# Altium footprint library Accumulator board 1 mkII 3.0.PcbLib: 32 footprints (part 1 of 2)
Each footprint in its own frame and in the unit in brackets; x right, y up, seen from the top. Pads: shape width x height; smd on the part's side, far side on the other; paste and mask are expansions set on the pad; w line width, h text height; cw(c..) or ccw(c..) is an arc to the next point about the centre after c.
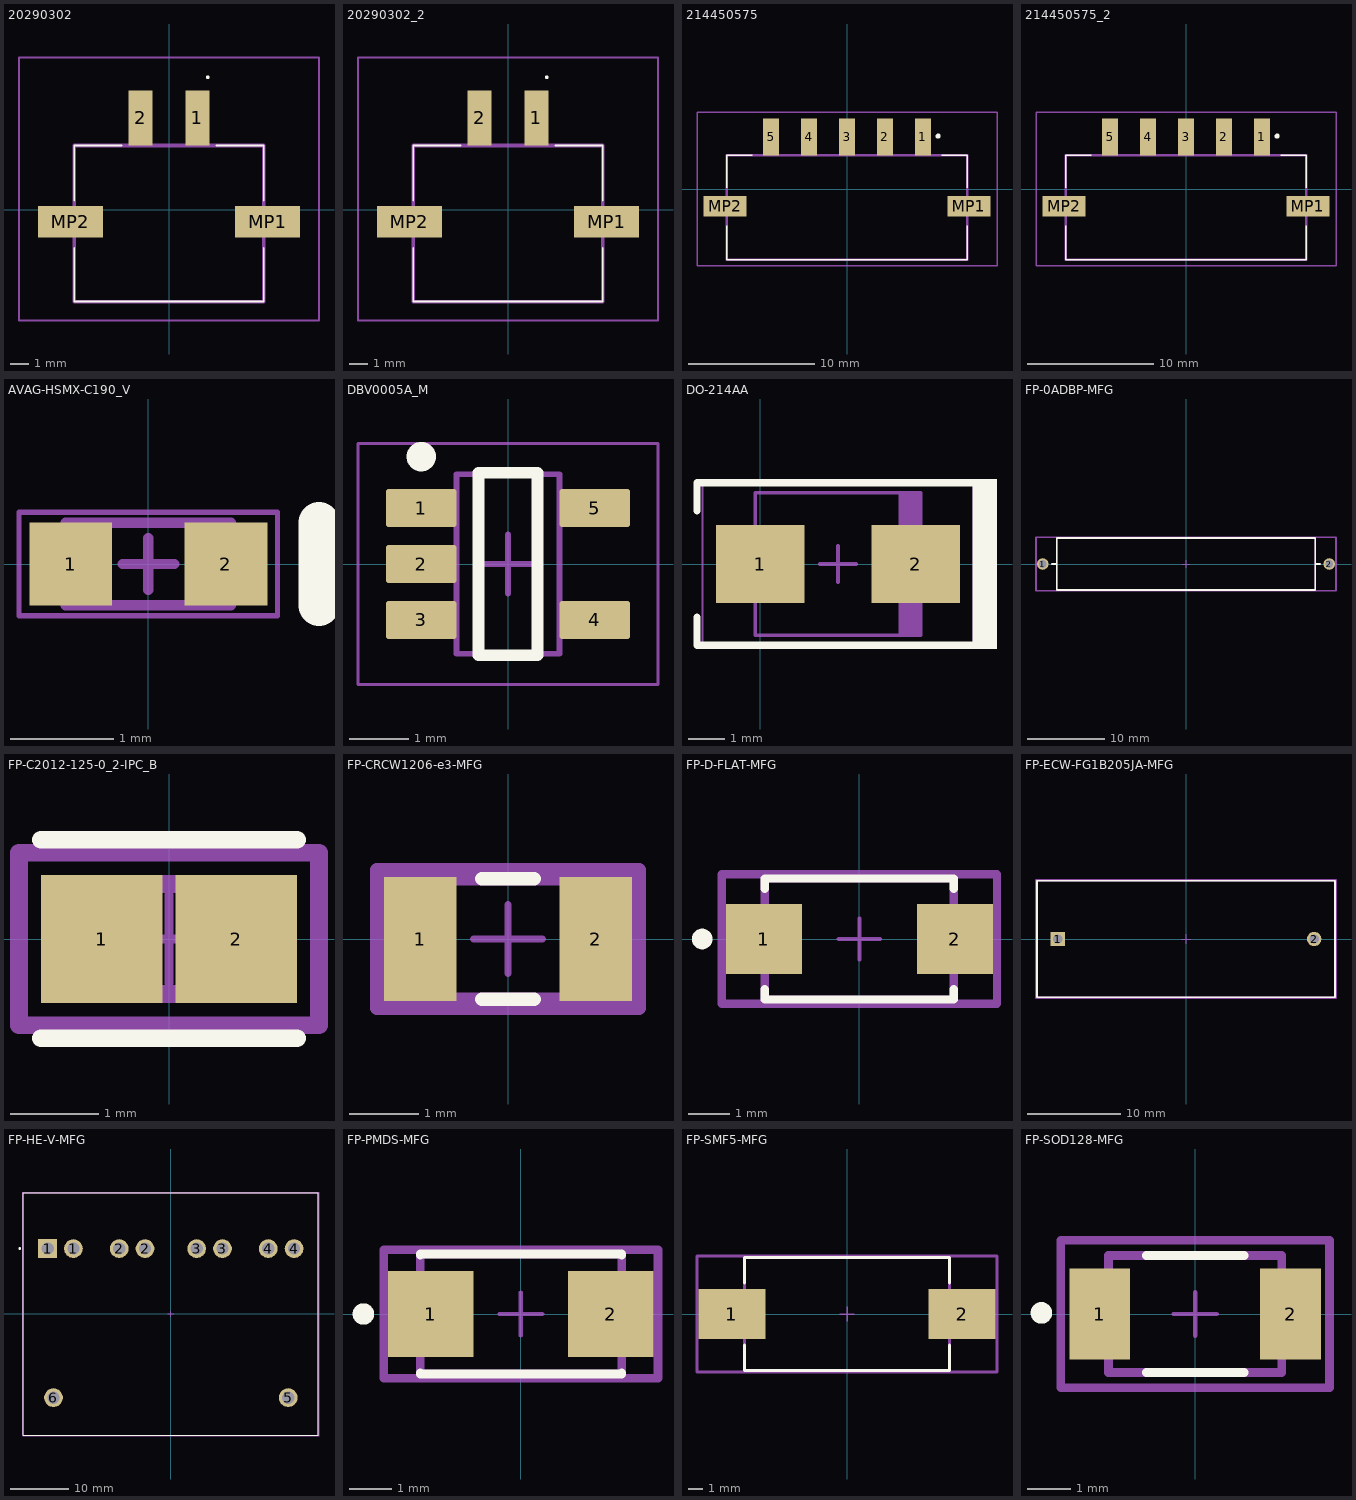
[diagram p0: the footprints below, top view; thin cyan lines are the x and y axes]

## 20290302 [mm]
pads (4):
  rect 1.27x2.92 smd: 1(1.5,4.85) 2(-1.5,4.85)
  rect 3.43x1.65 smd: MP1(5.205,-0.63) MP2(-5.205,-0.63)
Top Overlay:
  lines w0.1: -5,-2 -5,-4.85 5,-4.85 5,-2 ; -5,0.5 -5,3.39 -2.5,3.39 ; 2.5,3.39 5,3.39 5,0.5 ; 2,7 ccw(c2.05,7) 2.1,7 ccw(c2.05,7) 2,7
Mechanical 13:
  lines w0.2: -5,-4.85 5,-4.85 5,3.39 -5,3.39 -5,-4.85
Mechanical 15:
  lines w0.1: -7.92,-5.85 7.92,-5.85 7.92,8.05 -7.92,8.05 -7.92,-5.85
3D body "2029030-2.stp": height 4.37, standoff 0, extent -6.625,-5.14 6.625,6.02

## 20290302_2 [mm]
pads (4):
  rect 1.27x2.92 smd: 1(1.5,4.85) 2(-1.5,4.85)
  rect 3.43x1.65 smd: MP1(5.205,-0.63) MP2(-5.205,-0.63)
Top Overlay:
  lines w0.1: -5,-2 -5,-4.85 5,-4.85 5,-2 ; -5,0.5 -5,3.39 -2.5,3.39 ; 2.5,3.39 5,3.39 5,0.5 ; 2,7 ccw(c2.05,7) 2.1,7 ccw(c2.05,7) 2,7
Top 3D Body:
  lines w0.2: -5,-4.85 5,-4.85 5,3.39 -5,3.39 -5,-4.85
Top Courtyard:
  lines w0.1: -7.92,-5.85 7.92,-5.85 7.92,8.05 -7.92,8.05 -7.92,-5.85
3D body "2029030-2.stp": height 4.37, standoff 0, extent -6.625,-5.14 6.625,6.02

## 214450575 [mm]
height 9.24
pads (7):
  rect 1.27x2.92 smd: 1(6,4.12) 2(3,4.12) 3(0,4.12) 4(-3,4.12) 5(-6,4.12)
  rect 3.43x1.65 smd: MP1(9.635,-1.36) MP2(-9.635,-1.36)
Top Overlay:
  lines w0.1: -9.5,-2.92 -9.5,-5.58 9.5,-5.58 9.5,-2.92 ; -9.5,0.08 -9.5,2.66 -7.5,2.66 ; 7.5,2.66 9.5,2.66 9.5,0.08
  lines w0.2: 7.2,4.08 ccw(c7.2,4.18) 7.2,4.28 ccw(c7.2,4.18) 7.2,4.08
Top 3D Body:
  lines w0.2: -9.5,-5.58 -9.5,2.66 9.5,2.66 9.5,-5.58 -9.5,-5.58
Top Courtyard:
  lines w0.1: -11.85,-6.08 -11.85,6.08 11.85,6.08 11.85,-6.08 -11.85,-6.08
3D body "2-1445057-5.stp": height 5.67, standoff 0, extent -11.125,-5.87 11.125,5.29

## 214450575_2 [mm]
pads (7):
  rect 1.27x2.92 smd: 1(6,4.12) 2(3,4.12) 3(0,4.12) 4(-3,4.12) 5(-6,4.12)
  rect 3.43x1.65 smd: MP1(9.635,-1.36) MP2(-9.635,-1.36)
Top Overlay:
  lines w0.1: -9.5,-2.92 -9.5,-5.58 9.5,-5.58 9.5,-2.92 ; -9.5,0.08 -9.5,2.66 -7.5,2.66 ; 7.5,2.66 9.5,2.66 9.5,0.08
  lines w0.2: 7.2,4.08 cw(c7.2,4.18) 7.2,4.28 cw(c7.2,4.18) 7.2,4.08
Mechanical 13:
  lines w0.2: -9.5,-5.58 9.5,-5.58 9.5,2.66 -9.5,2.66 -9.5,-5.58
Mechanical 15:
  lines w0.1: -11.85,-6.08 11.85,-6.08 11.85,6.08 -11.85,6.08 -11.85,-6.08
3D body "2-1445057-5.stp": height 5.67, standoff 0, extent -11.125,-5.87 11.125,5.29

## AVAG-HSMX-C190_V [mm] "SMD, 2-Leads, Body 1.6x0.8mm, Height 0.9mm"
height 0.9
pads (2):
  rect 0.8x0.8 smd: 1(-0.75,0) 2(0.75,0)
Top Overlay:
  lines w0.4: 1.65,-0.4 1.65,0.4
Mechanical 13:
  lines w0.1: -0.8,-0.4 0.8,-0.4 0.8,0.4 -0.8,0.4 -0.8,-0.4
Mechanical 15:
  lines w0.05: -1.25,-0.5 -1.25,0.5 1.25,0.5 1.25,-0.5 -1.25,-0.5
  lines w0.1: -0.25,0 0.25,0 ; 0,-0.25 0,0.25
3D body: height 0.4, standoff 0, extent -0.8,-0.4 0.8,0.4
3D body: height 0.9, standoff 0.4, extent -0.55,-0.4 0.55,0.4

## DBV0005A_M [mm] "SOT23, 5-Leads, Body 3.05x1.75mm, Pitch 0.95mm, IPC Low Density"
height 1.45
pads (5):
  rrect15% 1.2x0.65 smd: 1(-1.475,0.95) 2(-1.475,0) 3(-1.475,-0.95) 4(1.475,-0.95) 5(1.475,0.95)
Top Overlay:
  circle w0.25: c-1.475,1.825 r0.125
  lines w0.2: -0.5,-1.55 -0.5,1.55 0.5,1.55 0.5,-1.55 -0.5,-1.55
Mechanical 1:
  text ".Designator" at -0.635,-0.127 h0.4
Mechanical 13:
  lines w0.1: -0.875,-1.525 0.875,-1.525 0.875,1.525 -0.875,1.525 -0.875,-1.525
Mechanical 15:
  lines w0.05: -2.55,-2.05 2.55,-2.05 2.55,2.05 -2.55,2.05 -2.55,-2.05
  lines w0.1: -0.5,0 0.5,0 ; 0,-0.5 0,0.5
3D body "DBV0005AaksMF05A.stp": height 1.08, standoff -0.01, extent -1.422,-1.461 1.422,1.46

## DO-214AA [mm] "Diode"
pads (2):
  rect 2.45x2.15 smd: 1(0,0) 2(4.3,0)
Top Overlay:
  rectangle: 5.875,-2.349 6.55,2.351
  lines w0.2: -1.75,-1.475 -1.75,-2.25 6.05,-2.25 ; -1.75,1.475 -1.75,2.25 6.05,2.25
Mechanical 13:
  rectangle: 3.82,-1.969 4.435,1.971
  lines w0.1: -0.135,-1.97 -0.135,1.97 4.435,1.97 4.435,-1.97 -0.135,-1.97
Mechanical 15:
  lines w0.05: -1.6,-2.25 -1.6,2.25 5.9,2.25 5.9,-2.25 -1.6,-2.25
  lines w0.1: 1.65,0 2.65,0 ; 2.15,-0.5 2.15,0.5
3D body "SMB.STEP": height 2.4, standoff 0, extent -0.45,-1.8 4.75,1.8

## FP-0ADBP-MFG [mm]
height 9.24
pads (2):
  round 1.5 hole 1 paste-1000 mask+0: 1(-18.615,0) 2(18.615,0)
Top Overlay:
  lines w0.2: -17.44,0 -16.805,0 ; 16.805,0 17.44,0 ; -16.805,-3.38 16.805,-3.38 16.805,3.38 -16.805,3.38 -16.805,-3.38
Top 3D Body:
  lines w0.2: -16.805,-3.38 16.805,-3.38 16.805,3.38 -16.805,3.38 -16.805,-3.38
Top Courtyard:
  lines w0.2: -19.49,-3.48 19.49,-3.48 19.49,3.48 -19.49,3.48 -19.49,-3.48
Top Assembly:
  lines w0.2: -19.49,-3.48 19.49,-3.48 19.49,3.48 -19.49,3.48 -19.49,-3.48
  text ".Designator" at 0,0.188 h1
Top Component Center:
  lines w0.1: -0.5,0 0.5,0 ; 0,-0.5 0,0.5
3D body "Fuse_Bel_Fuse_0ADBP1250-RE_eec.STEP": height 0.25, standoff 0, extent -19.49,-3.48 19.49,3.48

## FP-C2012-125-0_2-IPC_B [mm]
pads (2):
  rect 1.378x1.456 smd paste+0 mask+0: 1(-0.764,0) 2(0.764,0)
Top Overlay:
  lines w0.2: -1.453,-1.128 1.453,-1.128 ; -1.453,1.128 1.453,1.128
Top 3D Body:
  lines w0.2: -1,-0.625 -1,0.625 1,0.625 1,-0.625 -1,-0.625
Top Courtyard:
  lines w0.2: -1.703,-0.978 -1.703,0.978 1.703,0.978 1.703,-0.978 -1.703,-0.978
Top Assembly:
  lines w0.2: -1.703,-0.978 -1.703,0.978 1.703,0.978 1.703,-0.978 -1.703,-0.978
  text ".Designator" at 0,0.188 h1
Top Component Center:
  lines w0.1: -0.5,0 0.5,0 ; 0,-0.5 0,0.5
3D body "Cap_TDK_C2012X7R1E474K125AA_eec.STEP": height 0.25, standoff 0, extent -1.703,-0.978 1.703,0.978

## FP-CRCW1206-e3-MFG [mm]
height 9.24
pads (2):
  rect 1.05x1.8 smd paste+0 mask+0: 1(-1.275,0) 2(1.275,0)
Top Overlay:
  lines w0.2: -0.375,-0.875 0.375,-0.875 ; -0.375,0.875 0.375,0.875
Top 3D Body:
  lines w0.2: -1.65,-0.875 -1.65,0.875 1.65,0.875 1.65,-0.875 -1.65,-0.875
Top Courtyard:
  lines w0.2: -1.9,-1 -1.9,1 1.9,1 1.9,-1 -1.9,-1
Top Assembly:
  lines w0.2: -1.9,-1 -1.9,1 1.9,1 1.9,-1 -1.9,-1
  text ".Designator" at 0,0.188 h1
Top Component Center:
  lines w0.1: -0.5,0 0.5,0 ; 0,-0.5 0,0.5
3D body "Res_Vishay_CRCW1206619RFKEB_eec.STEP": height 0.25, standoff 0, extent -1.9,-1 1.9,1

## FP-D-FLAT-MFG [mm]
pads (2):
  rect 1.85x1.7 smd paste+0 mask+0: 1(-2.325,0) 2(2.325,0)
Top Overlay:
  circle w0.25: c-3.825,0 r0.125
  lines w0.2: -2.3,-1.225 -2.3,-1.475 2.3,-1.475 2.3,-1.225 ; -2.3,1.225 -2.3,1.475 2.3,1.475 2.3,1.225
Top 3D Body:
  lines w0.2: -2.3,-1.475 -2.3,1.475 2.3,1.475 2.3,-1.475 -2.3,-1.475
Top Courtyard:
  lines w0.2: -3.35,-1.575 -3.35,1.575 3.35,1.575 3.35,-1.575 -3.35,-1.575
Top Assembly:
  lines w0.2: -3.35,-1.575 -3.35,1.575 3.35,1.575 3.35,-1.575 -3.35,-1.575
  text ".Designator" at 0,0.188 h1
Top Component Center:
  lines w0.1: -0.5,0 0.5,0 ; 0,-0.5 0,0.5
3D body "Diode_Diodes_US1MDFQ-13_eec.STEP": height 0.25, standoff 0, extent -3.35,-1.575 3.35,1.575

## FP-ECW-FG1B205JA-MFG [mm]
height 9.24
pads (2):
  rect 1.55x1.55 hole 1 paste-1000 mask+0: 1(-13.75,0)
  round 1.55 hole 1 paste-1000 mask+0: 2(13.75,0)
Top Overlay:
  lines w0.2: -16,-6.25 16,-6.25 16,6.25 -16,6.25 -16,-6.25
Top 3D Body:
  lines w0.2: -16,-6.25 16,-6.25 16,6.25 -16,6.25 -16,-6.25
Top Courtyard:
  lines w0.2: -16.1,-6.35 16.1,-6.35 16.1,6.35 -16.1,6.35 -16.1,-6.35
Top Assembly:
  lines w0.2: -16.1,-6.35 16.1,-6.35 16.1,6.35 -16.1,6.35 -16.1,-6.35
  text ".Designator" at 1.109,-0.447 h1
Top Component Center:
  lines w0.1: -0.5,0 0.5,0 ; 0,-0.5 0,0.5
3D body "Cap_Panasonic_ECW-FG1B205JA_eec.STEP": height 0.25, standoff 0, extent -16.1,-6.35 16.1,6.35

## FP-HE-V-MFG [mm]
pads (10):
  rect 3.2x3.2 hole 2.1 paste-1000 mask+0: 1(-21,11.15)
  round 3.2 hole 2.1 paste-1000 mask+0: 1(-16.6,11.15) 2(-8.8,11.15) 2(-4.4,11.15) 3(4.4,11.15) 3(8.8,11.15) 4(16.6,11.15) 4(21,11.15) 5(20,-14.25) 6(-20,-14.25)
Top Overlay:
  circle w0.25: c-25.75,11.15 r0.125
  lines w0.2: -25.15,-20.65 25.15,-20.65 25.15,20.65 -25.15,20.65 -25.15,-20.65
Top 3D Body:
  lines w0.2: -25.15,-20.65 25.15,-20.65 25.15,20.65 -25.15,20.65 -25.15,-20.65
Top Courtyard:
  lines w0.2: -25.25,-20.75 25.25,-20.75 25.25,20.75 -25.25,20.75 -25.25,-20.75
Top Assembly:
  lines w0.2: -25.25,-20.75 25.25,-20.75 25.25,20.75 -25.25,20.75 -25.25,-20.75
  text ".Designator" at 0,0.188 h1
Top Component Center:
  lines w0.1: -0.5,0 0.5,0 ; 0,-0.5 0,0.5
3D body "Relay_Panasonic_Electric_Works_HEV2AN-P-DC24V_eec.STEP": height 0.25, standoff 0, extent -25.25,-20.75 25.25,20.75

## FP-PMDS-MFG [mm]
pads (2):
  rect 2x2 smd paste+0 mask+0: 1(-2.1,0) 2(2.1,0)
Top Overlay:
  circle w0.25: c-3.675,0 r0.125
  lines w0.2: -2.35,-1.375 -2.35,-1.4 2.35,-1.4 2.35,-1.375 ; -2.35,1.375 -2.35,1.4 2.35,1.4 2.35,1.375
Top 3D Body:
  lines w0.2: -2.35,-1.4 -2.35,1.4 2.35,1.4 2.35,-1.4 -2.35,-1.4
Top Courtyard:
  lines w0.2: -3.2,-1.5 -3.2,1.5 3.2,1.5 3.2,-1.5 -3.2,-1.5
Top Assembly:
  lines w0.2: -3.2,-1.5 -3.2,1.5 3.2,1.5 3.2,-1.5 -3.2,-1.5
  text ".Designator" at 0,0.188 h1
Top Component Center:
  lines w0.1: -0.5,0 0.5,0 ; 0,-0.5 0,0.5
3D body "Diode_Rohm_RSX501L-20TE25_eec.STEP": height 0.25, standoff 0, extent -3.2,-1.5 3.2,1.5

## FP-SMF5-MFG [mm]
pads (2):
  rect 4.5x3.4 smd paste+0 mask+0: 1(-7.75,0) 2(7.75,0)
Top Overlay:
  lines w0.2: -6.9,-2.075 -6.9,-3.8 6.9,-3.8 6.9,-2.075 ; -6.9,2.075 -6.9,3.8 6.9,3.8 6.9,2.075
Top 3D Body:
  lines w0.2: -6.9,-3.8 6.9,-3.8 6.9,3.8 -6.9,3.8 -6.9,-3.8
Top Courtyard:
  lines w0.2: -10.1,-3.9 10.1,-3.9 10.1,3.9 -10.1,3.9 -10.1,-3.9
Top Assembly:
  lines w0.2: -10.1,-3.9 10.1,-3.9 10.1,3.9 -10.1,3.9 -10.1,-3.9
  text ".Designator" at 0.843,-0.001 h1
Top Component Center:
  lines w0.1: -0.5,0 0.5,0 ; 0,-0.5 0,0.5
3D body "Res_TE_Connectivity_SMF5470KJT_eec.STEP": height 7.1, standoff 0, extent -6.81,-3.646 6.81,3.646

## FP-SOD128-MFG [mm]
height 9.24
pads (2):
  rect 1.4x2.1 smd paste-1000 mask+0: 1(-2.2,0) 2(2.2,0)
Top Overlay:
  circle w0.25: c-3.55,0.025 r0.125
  lines w0.2: -1.125,-1.35 1.125,-1.35 ; -1.125,1.35 1.125,1.35
Top Paste:
  rectangle: 1.6,-0.95 2.8,0.95
  rectangle: -2.8,-0.95 -1.6,0.95
Top 3D Body:
  lines w0.2: -2,-1.35 -2,1.35 2,1.35 2,-1.35 -2,-1.35
Top Courtyard:
  lines w0.2: -3.1,-1.7 -3.1,1.7 3.1,1.7 3.1,-1.7 -3.1,-1.7
Top Assembly:
  lines w0.2: -3.1,-1.7 -3.1,1.7 3.1,1.7 3.1,-1.7 -3.1,-1.7
  text ".Designator" at 0,0.188 h1
Top Component Center:
  lines w0.1: -0.5,0 0.5,0 ; 0,-0.5 0,0.5
3D body "Diode_Nexperia_PMEG40T50EPX_eec.STEP": height 0.25, standoff 0, extent -3.1,-1.7 3.1,1.7